# Altium schematic symbol library IC_RSxxx.SchLib: 4 symbols
Pins are listed as number, name and electrical type; pins without a type are passive.

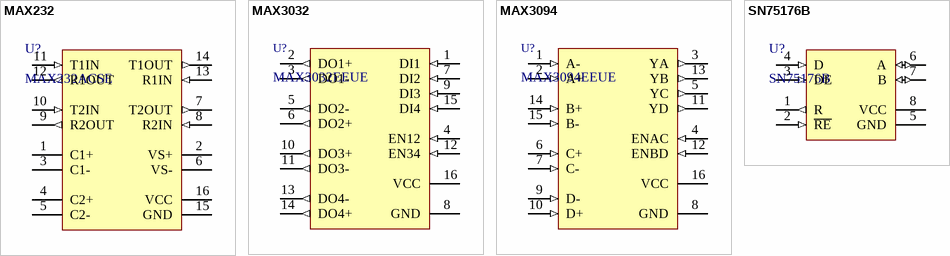
[diagram p0: symbols MAX232 to SN75176B]

## MAX232
designator U?, comment MAX232ACSE
Dual EIA-232 Drivers/Receivers; Manufacturer: TI; Supplier: https://www.chipdip.ru/product/max232acse; HelpURL: https://www.ti.com/lit/ds/symlink/max232.pdf; Name: MAX232ACSE; BOMString: MAX232ACSE
footprint SOIC-16 (SOIC, 16-Leads, Body 9,90x3,90mm, Pitch 1,27mm, IPC Medium Density)
footprint TSSOP-16-0.65 (TSOP, 16-Leads, Body 5,00x4,40mm, Pitch 0,65mm, Thermal Pad 2,41x2,46mm, IPC Medium Density)
pins: 1 C1+, 2 VS+, 3 C1-, 4 C2+, 5 C2-, 6 VS-, 7 T2OUT (out), 8 R2IN (in), 9 R2OUT (out), 10 T2IN (in), 11 T1IN (in), 12 R1OUT (out), 13 R1IN (in), 14 T1OUT (out), 15 GND, 16 VCC (power)

## MAX3032
designator U?, comment MAX3032EEUE
±15kV ESD-Protected, 3.3V Quad / RS-422 Transmitters; Manufacturer: Maxim Integrated; BOMString: MAX3032EEUE; Supplier: https://www.electronshik.ru/item/MAX/MAX3032EEUE%2B; HelpURL: https://datasheets.maximintegrated.com/en/ds/MAX3030E-MAX3033E.pdf; Name: MAX3032EEUE
footprint TSSOP-16-0.65 (TSOP, 16-Leads, Body 5,00x4,40mm, Pitch 0,65mm, Thermal Pad 2,41x2,46mm, IPC Medium Density)
pins: 1 DI1 (in), 2 DO1+ (out), 3 DO1- (out), 4 EN12 (in), 5 DO2- (out), 6 DO2+ (out), 7 DI2 (in), 8 GND, 9 DI3 (in), 10 DO3+ (out), 11 DO3- (out), 12 EN34 (in), 13 DO4- (out), 14 DO4+ (out), 15 DI4 (in), 16 VCC (power)

## MAX3094
designator U?, comment MAX3094EEUE
±15kV ESD-Protected, 10Mbps, 3V/5V, / Low-Power Quad RS-422/RS-485 Receivers; Manufacturer: Maxim Integrated; BOMString: MAX3094EEUE; Supplier: https://www.electronshik.ru/item/MAX/MAX3094EEUE%2B; HelpURL: https://datasheets.maximintegrated.com/en/ds/MAX3093E-MAX3094E.pdf; Name: MAX3094EEUE
footprint TSSOP-16-0.65 (TSOP, 16-Leads, Body 5,00x4,40mm, Pitch 0,65mm, Thermal Pad 2,41x2,46mm, IPC Medium Density)
pins: 1 A- (in), 2 A+ (in), 3 YA (out), 4 ENAC (in), 5 YC (out), 6 C+ (in), 7 C- (in), 8 GND, 9 D- (in), 10 D+ (in), 11 YD (out), 12 ENBD (in), 13 YB (out), 14 B+ (in), 15 B- (in), 16 VCC (power)

## SN75176B
designator U?
3.3 V, 15 kV ESD, 12 Mbps RS-485/RS-422 transceiver; Supplier: http://www.compel.ru/infosheet/TI/SN75176BDR/; HelpURL: http://www.ti.com.cn/cn/lit/ds/symlink/sn65176b.pdf; Name: SN75176B; BOMString: SN75176B
footprint SOIC-8
pins: 1 R (out), 2 ~{RE} (in), 3 DE (in), 4 D (in), 5 GND, 6 A (io), 7 B (io), 8 VCC (power)